# Altium footprint library TMC6100.PcbLib: 1 footprints
Each footprint in its own frame and in the unit in brackets; x right, y up, seen from the top. Pads: shape width x height; smd on the part's side, far side on the other; paste and mask are expansions set on the pad; w line width, h text height; cw(c..) or ccw(c..) is an arc to the next point about the centre after c.
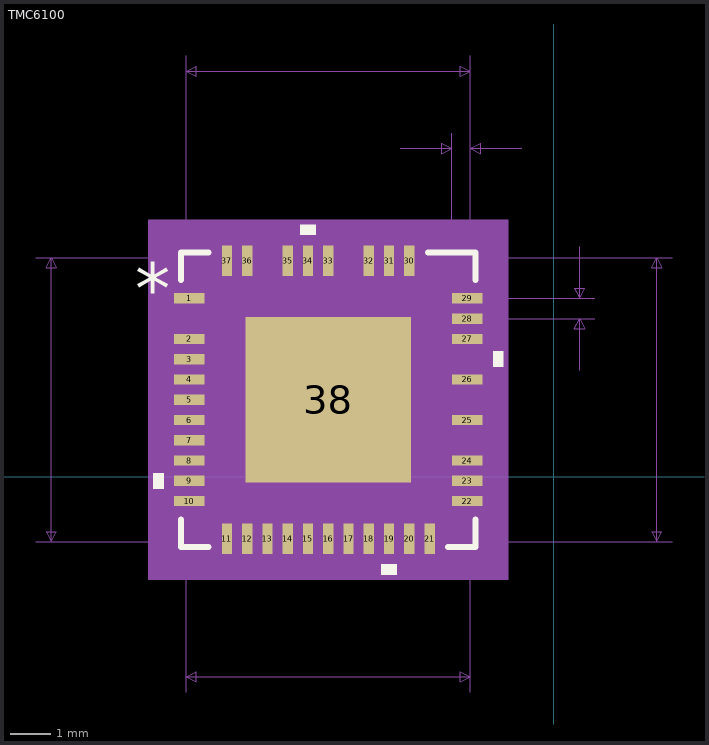
[diagram p0: the footprint, top view; thin cyan lines are the x and y axes]

## TMC6100 [mil]
pads (38):
  rect 30x10 smd paste+0 mask+0: 1(-354,173.43) 2(-354,134.06) 3(-354,114.37) 4(-354,94.69) 5(-354,75) 6(-354,55.31) 7(-354,35.63) 8(-354,15.94) 9(-354,-3.74) 10(-354,-23.43) 22(-84,-23.43) 23(-84,-3.74) 24(-84,15.94) 25(-84,55.31) 26(-84,94.69) 27(-84,134.06) 28(-84,153.74) 29(-84,173.43)
  rect 10x30 smd paste+0 mask+0: 11(-317.43,-60) 12(-297.74,-60) 13(-278.06,-60) 14(-258.37,-60) 15(-238.69,-60) 16(-219,-60) 17(-199.31,-60) 18(-179.63,-60) 19(-159.94,-60) 20(-140.26,-60) 21(-120.57,-60) 30(-140.26,210) 31(-159.94,210) 32(-179.63,210) 33(-219,210) 34(-238.69,210) 35(-258.37,210) 36(-297.74,210) 37(-317.43,210)
  rect 161x161 smd paste-80 mask+0: 38(-219,75)
Top Overlay:
  region: -231.19,235 -246.19,235 -246.19,245 -231.19,245
  region: -59,121.87 -49,121.87 -49,106.87 -59,106.87
  region: -152.44,-85 -167.44,-85 -167.44,-95 -152.44,-95
  region: -379,3.76 -389,3.76 -389,-11.24 -379,-11.24
  lines w6: -362,-41.53 -362,-68 -335.53,-68 ; -362,191.53 -362,218 -335.53,218 ; -122.16,218 -76,218 -76,191.53 ; -102.47,-68 -76,-68 -76,-41.53
  text "*" at -406.5,158.27 h50
Top Paste:
  region: -142.44,44.23 -188.23,44.23 -188.23,-1.56 -142.44,-1.56
  region: -142.44,97.9 -188.23,97.9 -188.23,52.1 -142.44,52.1
  region: -142.44,151.56 -188.23,151.56 -188.23,105.77 -142.44,105.77
  region: -196.1,44.23 -241.9,44.23 -241.9,-1.56 -196.1,-1.56
  region: -196.1,97.9 -241.9,97.9 -241.9,52.1 -196.1,52.1
  region: -196.1,151.56 -241.9,151.56 -241.9,105.77 -196.1,105.77
  region: -249.77,44.23 -295.56,44.23 -295.56,-1.56 -249.77,-1.56
  region: -249.77,97.9 -295.56,97.9 -295.56,52.1 -249.77,52.1
  region: -249.77,151.56 -295.56,151.56 -295.56,105.77 -249.77,105.77
Mechanical 5:
  region: -44,-100 -394,-100 -394,250 -44,250
Mechanical 7:
  lines w1: -503,-63 -81,-63 ; -503,213 -81,213 -81,-209 ; -357,-209 -357,213 ; -357,173.43 -357,409 ; -149,319 -99,319 ; -120.57,-63 115,-63 ; -120.57,213 115,213 ; -99,173.43 -99,334 ; -84,153.74 40,153.74 ; -84,173.43 40,173.43 ; -81,334 -81,173.43 -81,409 ; -31,319 -81,319 ; 25,103.74 25,153.74 ; 25,223.43 25,173.43 ; -488,-63 -483,-53 -493,-53 -488,-63 ; -488,-63 -488,213 ; -488,213 -483,203 -493,203 -488,213 ; -357,-194 -347,-199 -347,-189 -357,-194 ; -357,-194 -81,-194 ; -357,394 -347,389 -347,399 -357,394 ; -357,394 -81,394 ; -99,319 -109,314 -109,324 -99,319 ; -81,-194 -91,-199 -91,-189 -81,-194 ; -81,319 -71,314 -71,324 -81,319 ; -81,394 -91,389 -91,399 -81,394 ; 25,153.74 30,143.74 20,143.74 25,153.74 ; 25,173.43 30,183.43 20,183.43 25,173.43 ; 100,-63 105,-53 95,-53 100,-63 ; 100,-63 100,213 ; 100,213 105,203 95,203 100,213
  text "0.276in/7.01mm" at -306.5,-239 h25
  text "0.276in/7.01mm" at -683,62.5 h25
  text "0.276in/7.01mm" at 120,62.5 h25
  text "0.276in/7.01mm" at -306.5,414 h25
  text "0.018in/0.457mm" at -183.75,339 h25
  text "0.02in/0.5mm" at 45,151.08 h25
  text "Alt 2 Padstyle: OX90Y60D30P" at -556.5,-625 h50
  text "Alt 1 Padstyle: RX10Y30D0T" at -544,-565 h50
  text "Heat Tab Padstyle: RX161Y161D0T" at -606.5,-445 h50
  text "Default Padstyle: RX8Y30D0T" at -556.5,-385 h50
Mechanical 13:
  lines w1: -357,163 -307,213 ; -357,-63 -357,213 -81,213 -81,-63 -357,-63 ; -357,-28.43 -357,-18.43 -357,-28.43 ; -357,-8.74 -357,1.26 -357,-8.74 ; -357,10.94 -357,20.94 -357,10.94 ; -357,30.63 -357,40.63 -357,30.63 ; -357,50.31 -357,60.31 -357,50.31 ; -357,70 -357,80 -357,70 ; -357,89.69 -357,99.69 -357,89.69 ; -357,109.37 -357,119.37 -357,109.37 ; -357,129.06 -357,139.06 -357,129.06 ; -357,148.74 -357,158.74 -357,148.74 ; -357,168.43 -357,178.43 -357,168.43 ; -322.43,-63 -312.43,-63 -322.43,-63 ; -322.43,213 -312.43,213 -322.43,213 ; -302.74,-63 -292.74,-63 -302.74,-63 ; -302.74,213 -292.74,213 -302.74,213 ; -283.06,-63 -273.06,-63 -283.06,-63 ; -283.06,213 -273.06,213 -283.06,213 ; -263.37,-63 -253.37,-63 -263.37,-63 ; -263.37,213 -253.37,213 -263.37,213 ; -243.69,-63 -233.69,-63 -243.69,-63 ; -243.69,213 -233.69,213 -243.69,213 ; -224,-63 -214,-63 -224,-63 ; -224,213 -214,213 -224,213 ; -204.31,-63 -194.31,-63 -204.31,-63 ; -204.31,213 -194.31,213 -204.31,213 ; -184.63,-63 -174.63,-63 -184.63,-63 ; -184.63,213 -174.63,213 -184.63,213 ; -164.94,-63 -154.94,-63 -164.94,-63 ; -164.94,213 -154.94,213 -164.94,213 ; -145.26,-63 -135.26,-63 -145.26,-63 ; -145.26,213 -135.26,213 -145.26,213 ; -125.57,-63 -115.57,-63 -125.57,-63 ; -125.57,213 -115.57,213 -125.57,213 ; -81,-28.43 -81,-18.43 -81,-28.43 ; -81,-8.74 -81,1.26 -81,-8.74 ; -81,10.94 -81,20.94 -81,10.94 ; -81,30.63 -81,40.63 -81,30.63 ; -81,50.31 -81,60.31 -81,50.31 ; -81,70 -81,80 -81,70 ; -81,89.69 -81,99.69 -81,89.69 ; -81,109.37 -81,119.37 -81,109.37 ; -81,129.06 -81,139.06 -81,129.06 ; -81,148.74 -81,158.74 -81,148.74 ; -81,168.43 -81,178.43 -81,168.43
  text "*" at -351.5,158.27 h50
Mechanical 15:
  region: -331.43,-73 -367,-73 -367,-37.43 -379,-37.43 -379,187.43 -367,187.43 -367,223 -331.43,223 -331.43,235 -106.57,235 -106.57,223 -71,223 -71,187.43 -59,187.43 -59,-37.43 -71,-37.43 -71,-73 -106.57,-73 -106.57,-85 -331.43,-85
  lines w6: -379,-37.43 -379,187.43 -367,187.43 -367,223 -331.43,223 -331.43,235 -106.57,235 -106.57,223 -71,223 -71,187.43 -59,187.43 -59,-37.43 -71,-37.43 -71,-73 -106.57,-73 -106.57,-85 -331.43,-85 -331.43,-73 -367,-73 -367,-37.43 -379,-37.43
3D body: height 10, standoff 0, extent -219,75 -209,85
3D body "QFN37_7X7_TRI.step": height 35.12, standoff 0, extent -356.99,-62.99 -81,213